# Altium schematic symbol library Passive.SchLib: 6 symbols
Pins are listed as number, name and electrical type; pins without a type are passive.

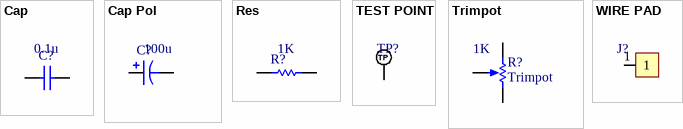
[diagram p0: symbols Cap to WIRE PAD]

## Cap
designator C?, comment value 0.1u  (hidden comment: Capacitor)
Published: 8-Jun-2000; LatestRevisionDate: 17-Jul-2002; LatestRevisionNote: Re-released for DXP Platform.; PackageReference: RAD-0.3; Publisher: Altium Limited; PackageDescription: Radial Cap, Thru-Hole; 2 Leads; 0.3 in Pin Spacing
footprint CAP_0603 (Capacitor SMD 0603 EB)
footprint CAP_0805 (Capacitor SMD 0805 EB)
pins: 1, 2

## Cap Pol
designator C?, comment value 100u  (hidden comment: Cap Pol2)
Polarized Capacitor; Published: 8-Jun-2000; LatestRevisionDate: 17-Jul-2002; LatestRevisionNote: Re-released for DXP Platform.; PackageReference: POLAR0.8; Publisher: Altium Limited; PackageDescription: Polarized Capacitor; 2 Leads
footprint FKV Panasonic 8x10.2L (F)
footprint FKV Panasonic 12.5x13.8L (H)
pins: 1, 2
1 alternate drawing of the same symbol

## Res
designator R?  value 1K
Resistor; Published: 8-Jun-2000; LatestRevisionDate: 17-Jul-2002; LatestRevisionNote: Re-released for DXP Platform.; PackageReference: AXIAL-0.3; Publisher: Altium Limited; PackageDescription: Axial Device, Thru-Hole; 2 Leads; 0.3 in Pin Spacing
footprint RES_0603 (Resistor SMD 0603 EB)
footprint RES_0805 (Resistor SMD 0805 EB)
footprint RES_1210 (Resistor SMD 1210 EB)
footprint RES_2512 (Resistor SMD 2512 EB)
pins: 1, 2

## TEST POINT
designator TP?, comment TP_NOBOM  (value not drawn)  (no BOM)
Test Point Round(NO BOM)
footprint TP_1MM
footprint TP_2MM
pins: 1 TP

## Trimpot
designator R?  value 1K
Potentiometer; PackageReference: VR5; PN: *
footprint TRIMPOT 3386
pins: 1 TOP, 2 TAP, 3 BOT
1 alternate drawing of the same symbol

## WIRE PAD
designator J?, comment WIREPAD_NOBOM  (value not drawn)  (no BOM)
WIRE PAD
footprint WIRE PAD 2MM
pins: 1